# Altium footprint library SC70.PCBLIB: 2 footprints
Each footprint in its own frame and in the unit in brackets; x right, y up, seen from the top. Pads: shape width x height; smd on the part's side, far side on the other; paste and mask are expansions set on the pad; w line width, h text height; cw(c..) or ccw(c..) is an arc to the next point about the centre after c.
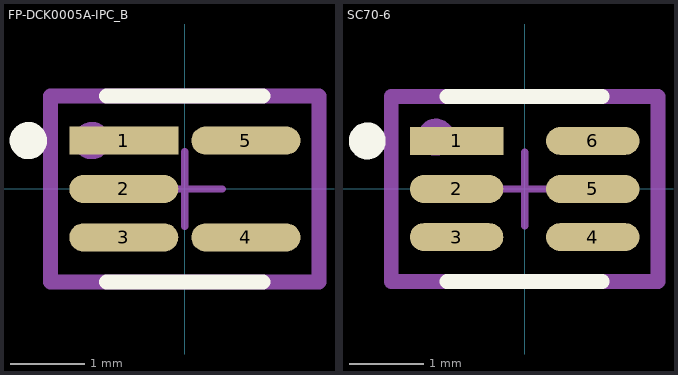
[diagram p0: the footprints below, top view; thin cyan lines are the x and y axes]

## FP-DCK0005A-IPC_B [mm]
pads (5):
  rect 1.464x0.376 smd paste+0 mask+0: 1(-0.82,0.65)
  rrect100% 1.464x0.376 smd paste+0 mask+0: 2(-0.82,0) 3(-0.82,-0.65) 4(0.82,-0.65) 5(0.82,0.65)
Top Overlay:
  circle w0.25: c-2.102,0.65 r0.125
  lines w0.2: -1.05,-1.25 1.05,-1.25 ; -1.05,1.25 1.05,1.25
Top Assembly:
  circle w0.25: c-1.25,0.65 r0.125
  lines w0.2: -1.802,-1.25 -1.802,1.25 1.802,1.25 1.802,-1.25 -1.802,-1.25
Top Courtyard:
  lines w0.2: -1.802,-1.25 -1.802,1.25 1.802,1.25 1.802,-1.25 -1.802,-1.25
Top Designator:
  text ".Designator" at 0,0.188 h1
Top Component Center:
  lines w0.1: -0.5,0 0.5,0 ; 0,-0.5 0,0.5
3D body "IC_Texas_Instruments_SN74AHC1G04DCKR_eec.STEP": height 1.1, standoff 0, extent -1.1,-1 1.1,1

## SC70-6 [mm]
pads (6):
  rect 1.264x0.376 smd paste+0 mask+0: 1(-0.92,0.65)
  rrect100% 1.264x0.376 smd paste+0 mask+0: 2(-0.92,0) 3(-0.92,-0.65) 4(0.92,-0.65) 5(0.92,0) 6(0.92,0.65)
Top Overlay:
  circle w0.25: c-2.127,0.65 r0.125
  lines w0.2: -1.05,-1.25 1.05,-1.25 ; -1.05,1.25 1.05,1.25
Top Assembly:
  circle w0.25: c-1.2,0.7 r0.125
  lines w0.2: -1.802,-1.25 -1.802,1.25 1.802,1.25 1.802,-1.25 -1.802,-1.25
Top Courtyard:
  lines w0.2: -1.802,-1.25 -1.802,1.25 1.802,1.25 1.802,-1.25 -1.802,-1.25
Top Designator:
  text ".Designator" at 0,0.188 h1
Top Component Center:
  lines w0.1: -0.5,0 0.5,0 ; 0,-0.5 0,0.5
3D body "IC_Texas_Instruments_SN74LVC1G11DCKR_eec.STEP": height 0.25, standoff 0, extent -1.802,-1.25 1.802,1.25